# Altium schematic symbol library Copy of T495X477M010ATE100.SchLib: 1 symbol
Pins are listed as number, name and electrical type; pins without a type are passive.

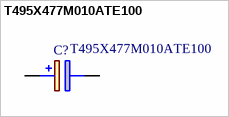
[diagram p0: symbol T495X477M010ATE100]

## T495X477M010ATE100
designator C?
T495, Tantalum, MnO2 Tantalum, Commercial Grade, 470 uF, 20%, 10 VDC, 125C, -55C, 85C, SMD, MnO2, Molded, Low ESR, 10 % , 100 mOhms, 47 uA, 652.04 mg, 7343, 4mm, Height Max = 4.3mm, 500, 156  Weeks; Manufacturer_Name: KEMET; Geometry.Height: 3.1mm; Mouser Part Number: *; Mouser Price/Stock: *; Manufacturer_Part_Number: T495X477M010ATE100; Datasheet Link: http://www.kemet.com/Lists/ProductCatalog/Attachments/261/KEM_T2009_T495.pdf
footprint CAPPM7343X310N
pins: 1 +, 2 -